# EAGLE library part HDR-2X16-F (library Mechanical)
Female 2x16 connector
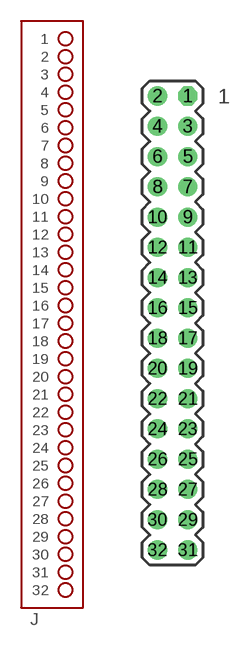
[diagram p79: symbol with the pads of HDR-2X16-F; footprint HDR-2X16-F]

Designator prefix J

## HDR-2X16-F  [HDR-2X16-F]
1  1  pas
2  2  pas
3  3  pas
4  4  pas
5  5  pas
6  6  pas
7  7  pas
8  8  pas
9  9  pas
10  10  pas
11  11  pas
12  12  pas
13  13  pas
14  14  pas
15  15  pas
16  16  pas
17  17  pas
18  18  pas
19  19  pas
20  20  pas
21  21  pas
22  22  pas
23  23  pas
24  24  pas
25  25  pas
26  26  pas
27  27  pas
28  28  pas
29  29  pas
30  30  pas
31  31  pas
32  32  pas

## Footprint HDR-2X16-F (pad centres in mm)
drill 1.067 octagon: 1 1.27,19.05
drill 1.067: 2 -1.27,19.05; 3 1.27,16.51; 4 -1.27,16.51; 5 1.27,13.97; 6 -1.27,13.97; 7 1.27,11.43; 8 -1.27,11.43; 9 1.27,8.89; 10 -1.27,8.89; 11 1.27,6.35; 12 -1.27,6.35; 13 1.27,3.81; 14 -1.27,3.81; 15 1.27,1.27; 16 -1.27,1.27; 17 1.27,-1.27; 18 -1.27,-1.27; 19 1.27,-3.81; 20 -1.27,-3.81; 21 1.27,-6.35; 22 -1.27,-6.35; 23 1.27,-8.89; 24 -1.27,-8.89; 25 1.27,-11.43; 26 -1.27,-11.43; 27 1.27,-13.97; 28 -1.27,-13.97; 29 1.27,-16.51; 30 -1.27,-16.51; 31 1.27,-19.05; 32 -1.27,-19.05